# Altium footprint library PAD_TH_SLOT.PcbLib: 1 footprints
Each footprint in its own frame and in the unit in brackets; x right, y up, seen from the top. Pads: shape width x height; smd on the part's side, far side on the other; paste and mask are expansions set on the pad; w line width, h text height; cw(c..) or ccw(c..) is an arc to the next point about the centre after c.
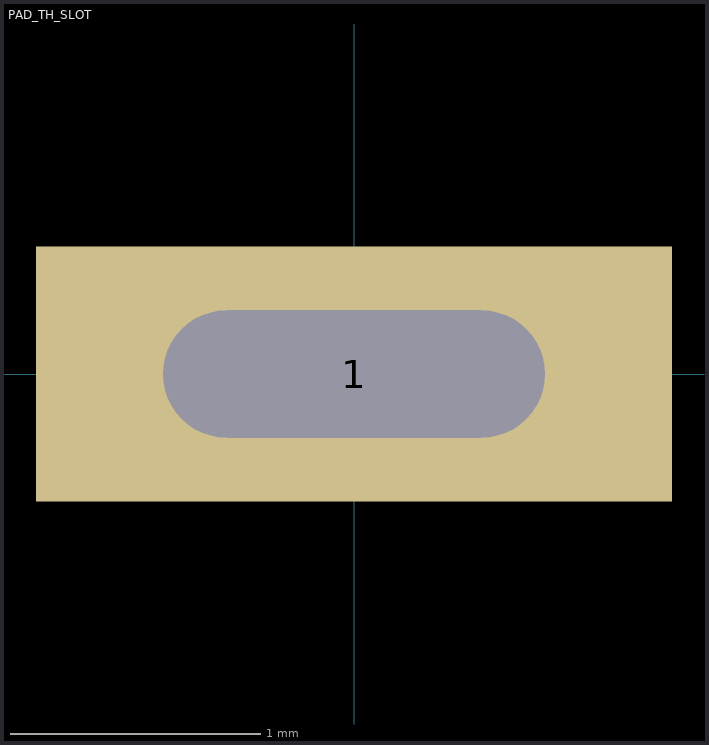
[diagram p0: the footprint, top view; thin cyan lines are the x and y axes]

## PAD_TH_SLOT [mil] "Slotted through-hole pad"
pads (1):
  rect 100x40 hole 20 slot 60 at 0 deg: 1(0,0)